# EAGLE library part FT230X (library MF_IC_Digital)
Manufacturer Part #: FT230X Manufacturer: FTDI Description: USB Interface IC USB to Basic Serial UART IC
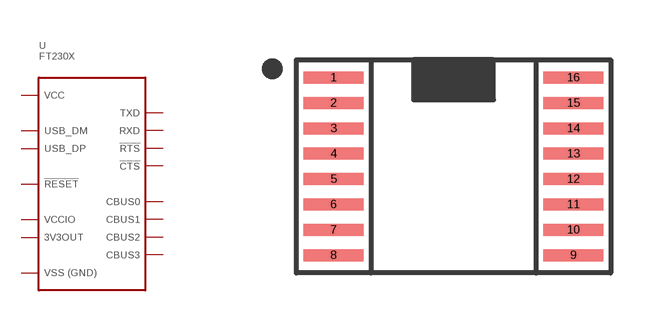
[diagram p7: symbol with the pads of SSOP16; footprint SSOP16]

Designator prefix U

## FT230XS  [SSOP16]
1  VCCIO
2  RXD
3  GND
4  !CTS
5  CBUS2
6  USBDP
7  USBDM
8  3V3OUT
9  !RESET
10  VCC
11  CBUS1
12  CBUS0
13  GND
14  CBUS3
15  TXD
16  !RTS

## Footprint SSOP16 (pad centres in mm)
Description: Standard SSOP-16 Package.
smd 1.5 x 0.3: 1 -3,2.223; 2 -3,1.587; 3 -3,0.953; 4 -3,0.318; 5 -3,-0.318; 6 -3,-0.953; 7 -3,-1.587; 8 -3,-2.223; 9 3,-2.223; 10 3,-1.587; 11 3,-0.953; 12 3,-0.318; 13 3,0.318; 14 3,0.953; 15 3,1.587; 16 3,2.223